# Altium schematic symbol library pico-clasp-6.SchLib: 1 symbol
Pins are listed as number, name and electrical type; pins without a type are passive.

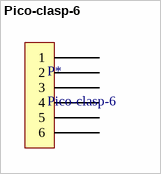
[diagram p0: symbol Pico-clasp-6]

## Pico-clasp-6
designator P*
6 pins
footprint 6 pins pico-clasp
pins: 1, 1 2, 3, 4, 5, 6